# Altium schematic symbol library RF_GPS.SchLib: 20 symbols
Pins are listed as number, name and electrical type; pins without a type are passive.

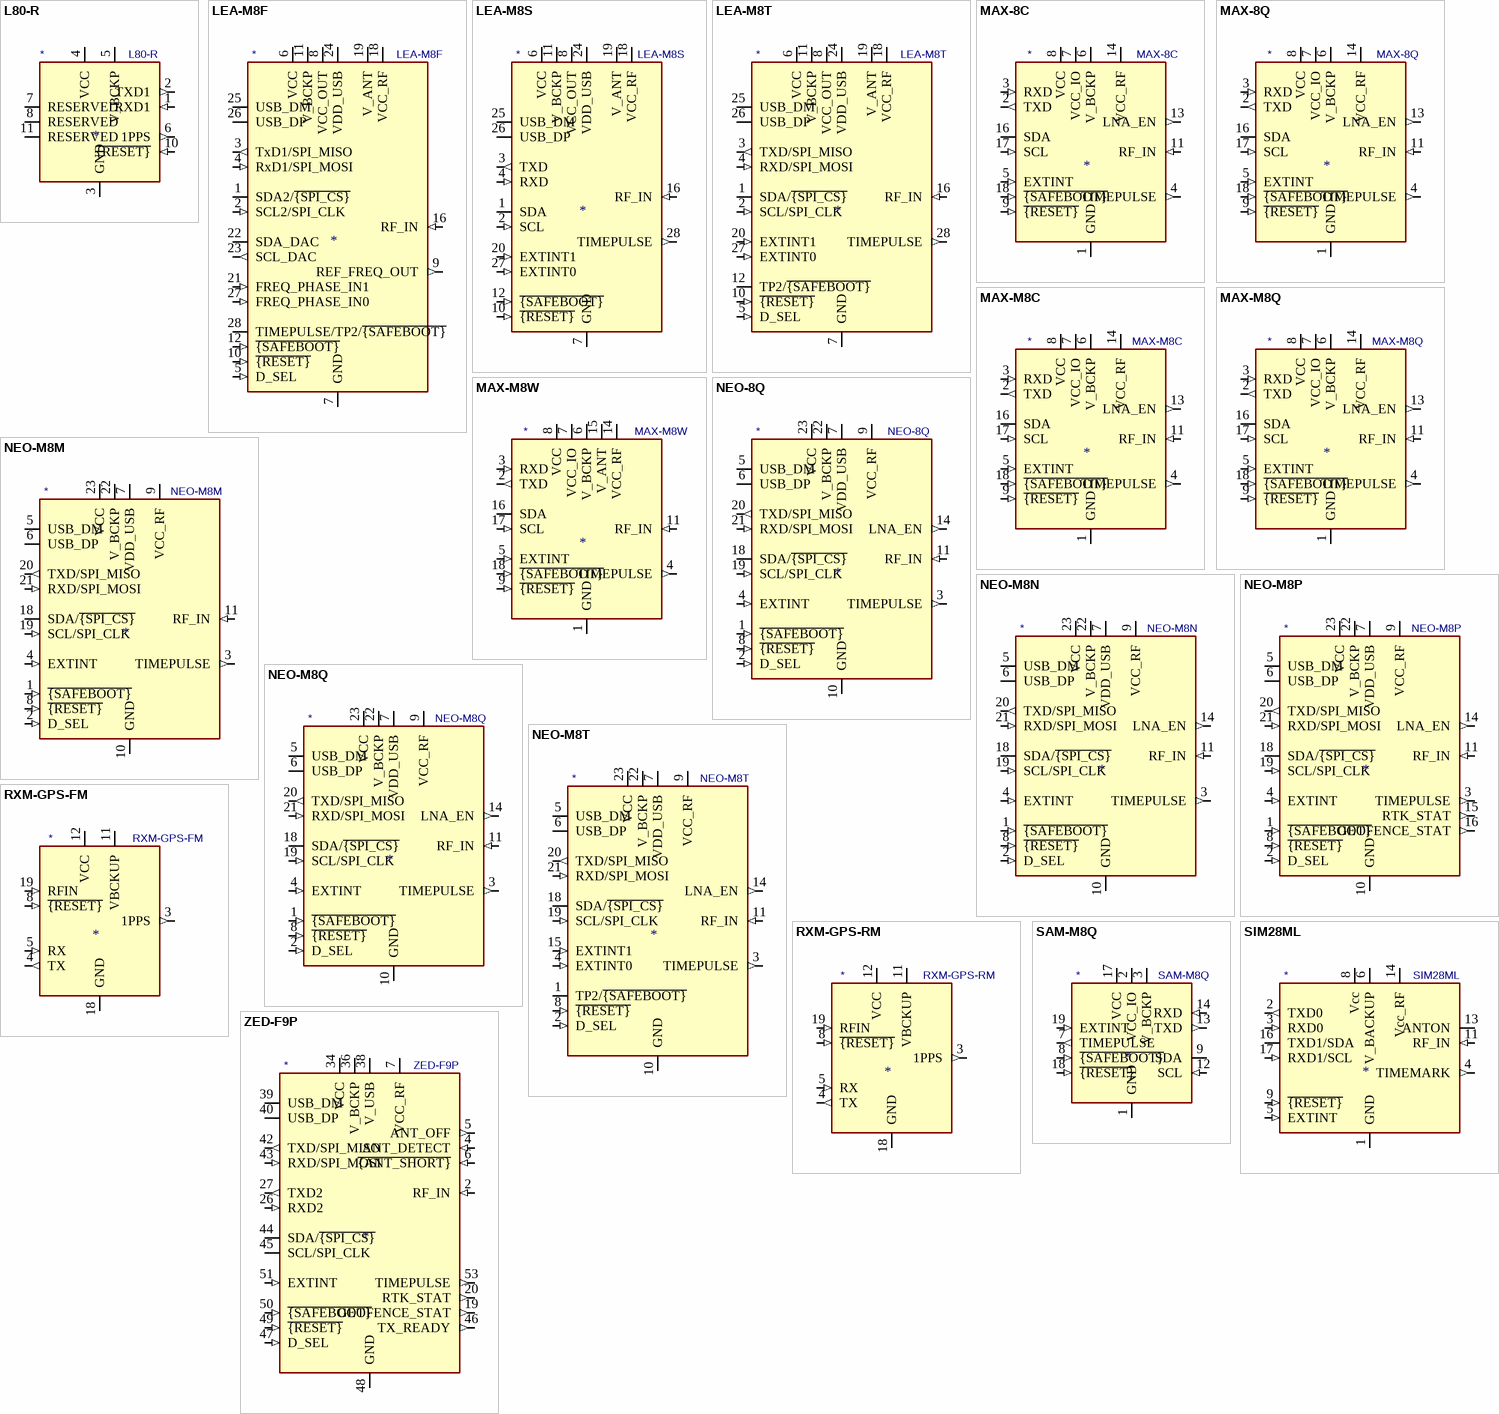
[diagram p0: symbols L80-R to ZED-F9P]

## L80-R
designator *  value L80-R
ki_keywords: quectel GPS GNSS module; ki_description: Quectel GPS Module; ki_fp_filters: Quectel*L80*R*; Footprint: RF_GPS:Quectel_L80-R; Supplier: https://www.quectel.com/UploadImage/Downlad/Quectel_L80-R_Hardware_Design_V1.2.pdf
footprint Quectel_L80-R
pins: 1 RXD1 (in), 2 TXD1 (out), 3 GND (power), 4 VCC (power), 5 V_BCKP (power), 6 1PPS (out), 7 RESERVED, 8 RESERVED, 9 NC (in) hidden, 10 ~{{RESET}} (in), 11 RESERVED, 12 GND hidden

## LEA-M8F
designator *  value LEA-M8F
ki_keywords: ublox GPS GNSS module; ki_description: GNSS Module LEA M8, VCC 3V to 3.6V; ki_fp_filters: ublox*LEA*; Footprint: RF_GPS:ublox_LEA; Supplier: https://www.u-blox.com/sites/default/files/products/documents/LEA-M8F_DataSheet_%28UBX-14001772%29.pdf
footprint ublox_LEA
pins: 1 SDA2/~{{SPI_CS}} (io), 2 SCL2/SPI_CLK (in), 3 TxD1/SPI_MISO (out), 4 RxD1/SPI_MOSI (in), 5 D_SEL (in), 6 VCC (power), 7 GND (power), 8 VCC_OUT (power), 9 REF_FREQ_OUT (out), 10 ~{{RESET}} (in), 11 V_BCKP (power), 12 ~{{SAFEBOOT}} (in), 13 GND hidden, 14 GND hidden, 15 GND hidden, 16 RF_IN (in), 17 GND hidden, 18 VCC_RF (power), 19 V_ANT (power), 20 RESERVED (in) hidden, 21 FREQ_PHASE_IN1 (in), 22 SDA_DAC (io), 23 SCL_DAC (out), 24 VDD_USB (power), 25 USB_DM (io), 26 USB_DP (io), 27 FREQ_PHASE_IN0 (in), 28 TIMEPULSE/TP2/~{{SAFEBOOT}} (io)

## LEA-M8S
designator *  value LEA-M8S
ki_keywords: ublox GPS GNSS module; ki_description: GNSS Module LEA M8, VCC 2.7V to 3.6V; ki_fp_filters: ublox*LEA*; Footprint: RF_GPS:ublox_LEA; Supplier: https://www.u-blox.com/sites/default/files/LEA-M8S-FW3_DataSheet_%28UBX-16010205%29.pdf
footprint ublox_LEA
pins: 1 SDA (io), 2 SCL (in), 3 TXD (out), 4 RXD (in), 5 RESERVED (in) hidden, 6 VCC (power), 7 GND (power), 8 VCC_OUT (power), 9 RESERVED (in) hidden, 10 ~{{RESET}} (in), 11 V_BCKP (power), 12 ~{{SAFEBOOT}} (in), 13 GND hidden, 14 GND hidden, 15 GND hidden, 16 RF_IN (in), 17 GND hidden, 18 VCC_RF (power), 19 V_ANT (power), 20 EXTINT1 (in), 21 RESERVED (in) hidden, 22 RESERVED (in) hidden, 23 RESERVED (in) hidden, 24 VDD_USB (power), 25 USB_DM (io), 26 USB_DP (io), 27 EXTINT0 (in), 28 TIMEPULSE (out)

## LEA-M8T
designator *  value LEA-M8T
ki_keywords: ublox GPS GNSS module; ki_description: GNSS Module LEA M8, VCC 2.7V to 3.6V; ki_fp_filters: ublox*LEA*; Footprint: RF_GPS:ublox_LEA; Supplier: https://www.u-blox.com/sites/default/files/NEO-LEA-M8T-FW3_DataSheet_%28UBX-15025193%29.pdf
footprint ublox_LEA
pins: 1 SDA/~{{SPI_CS}} (io), 2 SCL/SPI_CLK (in), 3 TXD/SPI_MISO (out), 4 RXD/SPI_MOSI (in), 5 D_SEL (in), 6 VCC (power), 7 GND (power), 8 VCC_OUT (power), 9 RESERVED (in) hidden, 10 ~{{RESET}} (in), 11 V_BCKP (power), 12 TP2/~{{SAFEBOOT}} (io), 13 GND hidden, 14 GND hidden, 15 GND hidden, 16 RF_IN (in), 17 GND hidden, 18 VCC_RF (power), 19 V_ANT (power), 20 EXTINT1 (in), 21 RESERVED (in) hidden, 22 RESERVED (in) hidden, 23 RESERVED (in) hidden, 24 VDD_USB (power), 25 USB_DM (io), 26 USB_DP (io), 27 EXTINT0 (in), 28 TIMEPULSE (out)

## MAX-8C
designator *  value MAX-8C
ki_keywords: ublox GPS GNSS module; ki_description: GNSS Module MAX M8, VCC 1.65V to 3.6V; ki_fp_filters: ublox*MAX*; Footprint: RF_GPS:ublox_MAX; Supplier: https://www.u-blox.com/sites/default/files/MAX-8_DataSheet_%28UBX-16000093%29.pdf
footprint ublox_MAX
pins: 1 GND (power), 2 TXD (out), 3 RXD (in), 4 TIMEPULSE (out), 5 EXTINT (in), 6 V_BCKP (power), 7 VCC_IO (power), 8 VCC (power), 9 ~{{RESET}} (in), 10 GND hidden, 11 RF_IN (in), 12 GND hidden, 13 LNA_EN (out), 14 VCC_RF (power), 15 Reserved (in) hidden, 16 SDA (io), 17 SCL (in), 18 ~{{SAFEBOOT}} (in)

## MAX-8Q
designator *  value MAX-8Q
ki_keywords: ublox GPS GNSS module; ki_description: GNSS Module M8, VCC 2.7V to 3.6V; ki_fp_filters: ublox*MAX*; Footprint: RF_GPS:ublox_MAX; Supplier: https://www.u-blox.com/sites/default/files/MAX-8_DataSheet_%28UBX-16000093%29.pdf
footprint ublox_MAX
pins: 1 GND (power), 2 TXD (out), 3 RXD (in), 4 TIMEPULSE (out), 5 EXTINT (in), 6 V_BCKP (power), 7 VCC_IO (power), 8 VCC (power), 9 ~{{RESET}} (in), 10 GND hidden, 11 RF_IN (in), 12 GND hidden, 13 LNA_EN (out), 14 VCC_RF (power), 15 Reserved (in) hidden, 16 SDA (io), 17 SCL (in), 18 ~{{SAFEBOOT}} (in)

## MAX-M8C
designator *  value MAX-M8C
ki_keywords: ublox GPS GNSS module; ki_description: GNSS Module MAX M8, VCC 1.65V to 3.6V; ki_fp_filters: ublox*MAX*; Footprint: RF_GPS:ublox_MAX; Supplier: https://www.u-blox.com/sites/default/files/MAX-M8-FW3_DataSheet_%28UBX-15031506%29.pdf
footprint ublox_MAX
pins: 1 GND (power), 2 TXD (out), 3 RXD (in), 4 TIMEPULSE (out), 5 EXTINT (in), 6 V_BCKP (power), 7 VCC_IO (power), 8 VCC (power), 9 ~{{RESET}} (in), 10 GND hidden, 11 RF_IN (in), 12 GND hidden, 13 LNA_EN (out), 14 VCC_RF (power), 15 Reserved (in) hidden, 16 SDA (io), 17 SCL (in), 18 ~{{SAFEBOOT}} (in)

## MAX-M8Q
designator *  value MAX-M8Q
ki_keywords: ublox GPS GNSS module; ki_description: GNSS Module MAX M8, VCC 2.7V to 3.6V; ki_fp_filters: ublox*MAX*; Footprint: RF_GPS:ublox_MAX; Supplier: https://www.u-blox.com/sites/default/files/MAX-M8-FW3_DataSheet_%28UBX-15031506%29.pdf
footprint ublox_MAX
pins: 1 GND (power), 2 TXD (out), 3 RXD (in), 4 TIMEPULSE (out), 5 EXTINT (in), 6 V_BCKP (power), 7 VCC_IO (power), 8 VCC (power), 9 ~{{RESET}} (in), 10 GND hidden, 11 RF_IN (in), 12 GND hidden, 13 LNA_EN (out), 14 VCC_RF (power), 15 Reserved (in) hidden, 16 SDA (io), 17 SCL (in), 18 ~{{SAFEBOOT}} (in)

## MAX-M8W
designator *  value MAX-M8W
ki_keywords: ublox GPS GNSS module; ki_description: GNSS Module MAX M8, VCC 2.7V to 3.6V; ki_fp_filters: ublox*MAX*; Footprint: RF_GPS:ublox_MAX; Supplier: https://www.u-blox.com/sites/default/files/MAX-M8-FW3_DataSheet_%28UBX-15031506%29.pdf
footprint ublox_MAX
pins: 1 GND (power), 2 TXD (out), 3 RXD (in), 4 TIMEPULSE (out), 5 EXTINT (in), 6 V_BCKP (power), 7 VCC_IO (power), 8 VCC (power), 9 ~{{RESET}} (in), 10 GND hidden, 11 RF_IN (in), 12 GND hidden, 13 Reserved (in) hidden, 14 VCC_RF (power), 15 V_ANT (power), 16 SDA (io), 17 SCL (in), 18 ~{{SAFEBOOT}} (in)

## NEO-8Q
designator *  value NEO-8Q
ki_keywords: ublox GPS GNSS module; ki_description: GNSS Module NEO 8, VCC 1.65V to 3.6V; ki_fp_filters: ublox*NEO*; Footprint: RF_GPS:ublox_NEO; Supplier: https://www.u-blox.com/sites/default/files/NEO-8Q_DataSheet_%28UBX-15031913%29.pdf
footprint ublox_NEO
pins: 1 ~{{SAFEBOOT}} (in), 2 D_SEL (in), 3 TIMEPULSE (out), 4 EXTINT (in), 5 USB_DM (io), 6 USB_DP (io), 7 VDD_USB (power), 8 ~{{RESET}} (in), 9 VCC_RF (power), 10 GND (power), 11 RF_IN (in), 12 GND hidden, 13 GND hidden, 14 LNA_EN (out), 15 RESERVED (in) hidden, 16 RESERVED (in) hidden, 17 RESERVED (in) hidden, 18 SDA/~{{SPI_CS}} (io), 19 SCL/SPI_CLK (in), 20 TXD/SPI_MISO (out), 21 RXD/SPI_MOSI (in), 22 V_BCKP (power), 23 VCC (power), 24 GND hidden

## NEO-M8M
designator *  value NEO-M8M
ki_keywords: ublox GPS GNSS module; ki_description: GNSS Module NEO M8, VCC 2.7V to 3.6V; ki_fp_filters: ublox*NEO*; Footprint: RF_GPS:ublox_NEO; Supplier: https://www.u-blox.com/sites/default/files/NEO-M8-FW3_DataSheet_%28UBX-15031086%29.pdf
footprint ublox_NEO
pins: 1 ~{{SAFEBOOT}} (in), 2 D_SEL (in), 3 TIMEPULSE (out), 4 EXTINT (in), 5 USB_DM (io), 6 USB_DP (io), 7 VDD_USB (power), 8 ~{{RESET}} (in), 9 VCC_RF (power), 10 GND (power), 11 RF_IN (in), 12 GND hidden, 13 GND hidden, 14 RESERVED (in) hidden, 15 RESERVED (in) hidden, 16 RESERVED (in) hidden, 17 RESERVED (in) hidden, 18 SDA/~{{SPI_CS}} (io), 19 SCL/SPI_CLK (in), 20 TXD/SPI_MISO (out), 21 RXD/SPI_MOSI (in), 22 V_BCKP (power), 23 VCC (power), 24 GND hidden

## NEO-M8N
designator *  value NEO-M8N
ki_keywords: ublox GPS GNSS module; ki_description: GNSS Module NEO M8, VCC 2.7V to 3.6V; ki_fp_filters: ublox*NEO*; Footprint: RF_GPS:ublox_NEO; Supplier: https://www.u-blox.com/sites/default/files/NEO-M8-FW3_DataSheet_%28UBX-15031086%29.pdf
footprint ublox_NEO
pins: 1 ~{{SAFEBOOT}} (in), 2 D_SEL (in), 3 TIMEPULSE (out), 4 EXTINT (in), 5 USB_DM (io), 6 USB_DP (io), 7 VDD_USB (power), 8 ~{{RESET}} (in), 9 VCC_RF (power), 10 GND (power), 11 RF_IN (in), 12 GND hidden, 13 GND hidden, 14 LNA_EN (out), 15 RESERVED (in) hidden, 16 RESERVED (in) hidden, 17 RESERVED (in) hidden, 18 SDA/~{{SPI_CS}} (io), 19 SCL/SPI_CLK (in), 20 TXD/SPI_MISO (out), 21 RXD/SPI_MOSI (in), 22 V_BCKP (power), 23 VCC (power), 24 GND hidden

## NEO-M8P
designator *  value NEO-M8P
ki_keywords: ublox GPS GNSS RTK module; ki_description: GNSS RTK Module NEO M8, VCC 2.7V to 3.6V; ki_fp_filters: ublox*NEO*; Footprint: RF_GPS:ublox_NEO; Supplier: https://www.u-blox.com/sites/default/files/NEO-M8P_DataSheet_%28UBX-15016656%29.pdf
footprint ublox_NEO
pins: 1 ~{{SAFEBOOT}} (in), 2 D_SEL (in), 3 TIMEPULSE (out), 4 EXTINT (in), 5 USB_DM (io), 6 USB_DP (io), 7 VDD_USB (power), 8 ~{{RESET}} (in), 9 VCC_RF (power), 10 GND (power), 11 RF_IN (in), 12 GND hidden, 13 GND hidden, 14 LNA_EN (out), 15 RTK_STAT (out), 16 GEOFENCE_STAT (out), 17 RESERVED (in) hidden, 18 SDA/~{{SPI_CS}} (io), 19 SCL/SPI_CLK (in), 20 TXD/SPI_MISO (out), 21 RXD/SPI_MOSI (in), 22 V_BCKP (power), 23 VCC (power), 24 GND hidden

## NEO-M8Q
designator *  value NEO-M8Q
ki_keywords: ublox GPS GNSS module; ki_description: GNSS Module NEO M8, VCC 2.7V to 3.6V; ki_fp_filters: ublox*NEO*; Footprint: RF_GPS:ublox_NEO; Supplier: https://www.u-blox.com/sites/default/files/NEO-M8-FW3_DataSheet_%28UBX-15031086%29.pdf
footprint ublox_NEO
pins: 1 ~{{SAFEBOOT}} (in), 2 D_SEL (in), 3 TIMEPULSE (out), 4 EXTINT (in), 5 USB_DM (io), 6 USB_DP (io), 7 VDD_USB (power), 8 ~{{RESET}} (in), 9 VCC_RF (power), 10 GND (power), 11 RF_IN (in), 12 GND hidden, 13 GND hidden, 14 LNA_EN (out), 15 RESERVED (in) hidden, 16 RESERVED (in) hidden, 17 RESERVED (in) hidden, 18 SDA/~{{SPI_CS}} (io), 19 SCL/SPI_CLK (in), 20 TXD/SPI_MISO (out), 21 RXD/SPI_MOSI (in), 22 V_BCKP (power), 23 VCC (power), 24 GND hidden

## NEO-M8T
designator *  value NEO-M8T
ki_keywords: ublox GPS GNSS module; ki_description: GNSS Module NEO M8, VCC 2.7V to 3.6V; ki_fp_filters: ublox*NEO*; Footprint: RF_GPS:ublox_NEO; Supplier: https://www.u-blox.com/sites/default/files/NEO-LEA-M8T-FW3_DataSheet_%28UBX-15025193%29.pdf
footprint ublox_NEO
pins: 1 TP2/~{{SAFEBOOT}} (io), 2 D_SEL (in), 3 TIMEPULSE (out), 4 EXTINT0 (in), 5 USB_DM (io), 6 USB_DP (io), 7 VDD_USB (power), 8 ~{{RESET}} (in), 9 VCC_RF (power), 10 GND (power), 11 RF_IN (in), 12 GND hidden, 13 GND hidden, 14 LNA_EN (out), 15 EXTINT1 (in), 16 RESERVED (in) hidden, 17 RESERVED (in) hidden, 18 SDA/~{{SPI_CS}} (io), 19 SCL/SPI_CLK (in), 20 TXD/SPI_MISO (out), 21 RXD/SPI_MOSI (in), 22 V_BCKP (power), 23 VCC (power), 24 GND hidden

## RXM-GPS-FM
designator *  value RXM-GPS-FM
ki_keywords: gps low-power; ki_description: Module GPS Low Power, 14mA tracking, 22 channels; ki_fp_filters: Linx*RXM?GPS*; Footprint: RF_GPS:Linx_RXM-GPS; Supplier: https://linxtechnologies.com/wp/wp-content/uploads/rxm-gps-fm.pdf
footprint Linx_RXM-GPS
pins: 1 NC (in) hidden, 2 NC (in) hidden, 3 1PPS (out), 4 TX (out), 5 RX (in), 6 NC (in) hidden, 7 NC (in) hidden, 8 ~{{RESET}} (in), 9 NC (in) hidden, 10 NC (in) hidden, 11 VBCKUP (power), 12 VCC (power), 13 NC (in) hidden, 14 NC (in) hidden, 15 NC (in) hidden, 16 NC (in) hidden, 18 GND (power), 19 RFIN (in), 20 GND hidden, 21 GND hidden, 22 GND hidden

## RXM-GPS-RM
designator *  value RXM-GPS-RM
ki_keywords: gps low-power; ki_description: Module GPS Low Power, 14mA tracking, 22 channels; ki_fp_filters: Linx*RXM?GPS*; Footprint: RF_GPS:Linx_RXM-GPS; Supplier: https://linxtechnologies.com/wp/wp-content/uploads/rxm-gps-rm.pdf
footprint Linx_RXM-GPS
pins: 1 NC (in) hidden, 2 NC (in) hidden, 3 1PPS (out), 4 TX (out), 5 RX (in), 6 NC (in) hidden, 7 NC (in) hidden, 8 ~{{RESET}} (in), 9 NC (in) hidden, 10 NC (in) hidden, 11 VBCKUP (power), 12 VCC (power), 13 NC (in) hidden, 14 NC (in) hidden, 15 NC (in) hidden, 16 NC (in) hidden, 18 GND (power), 19 RFIN (in), 20 GND hidden, 21 GND hidden, 22 GND hidden

## SAM-M8Q
designator *  value SAM-M8Q
ki_keywords: gps module with antenna; ki_description: GPS ublox M8 variant; ki_fp_filters: ublox*SAM?M8Q*; Footprint: RF_GPS:ublox_SAM-M8Q; Supplier: https://www.u-blox.com/sites/default/files/SAM-M8Q_DataSheet_%28UBX-16012619%29.pdf
footprint ublox_SAM-M8Q
pins: 1 GND (power), 2 VCC_IO (power), 3 V_BCKP (power), 4 GND hidden, 5 GND hidden, 6 GND hidden, 7 TIMEPULSE (out), 8 ~{{SAFEBOOT}} (in), 9 SDA (io), 10 GND hidden, 11 GND hidden, 12 SCL (in), 13 TXD (out), 14 RXD (in), 15 GND hidden, 16 GND hidden, 17 VCC (power), 18 ~{{RESET}} (in), 19 EXTINT (in), 20 GND hidden

## SIM28ML
designator *  value SIM28ML
ki_keywords: GPS A-GPS receiver; ki_description: Standalone GPS/A-GPS receiver module, built-in LNA, -165dBm sensitivity, 2.8-4.3V, SMD; ki_fp_filters: SIM28ML*; Footprint: RF_GPS:SIM28ML; Supplier: https://simcom.ee/documents/SIM28ML/SIM28ML_Hardware%20Design_V1.01.pdf
footprint SIM28ML
pins: 1 GND (power), 2 TXD0 (out), 3 RXD0 (in), 4 TIMEMARK (out), 5 EXTINT (in), 6 V_BACKUP (power), 7 NC (in) hidden, 8 Vcc (power), 9 ~{{RESET}} (in), 10 GND hidden, 11 RF_IN (in), 12 GND hidden, 13 ANTON (power), 14 Vcc_RF (power), 15 NC (in) hidden, 16 TXD1/SDA (io), 17 RXD1/SCL (in), 18 NC (in) hidden

## ZED-F9P
designator *  value ZED-F9P
ki_keywords: u-blox GNSS multi-band RTK; ki_description: GNSS Module ZED F9, VCC 2.7V to 3.6V, LGA-54; ki_fp_filters: ublox*ZED*; Footprint: RF_GPS:ublox_ZED; Supplier: https://www.u-blox.com/sites/default/files/ZED-F9P_DataSheet_%28UBX-17051259%29.pdf
footprint ublox_ZED
pins: 1 GND hidden, 2 RF_IN (in), 3 GND hidden, 4 ANT_DETECT (in), 5 ANT_OFF (out), 6 ~{{ANT_SHORT}} (in), 7 VCC_RF (power), 8 Reserved (in) hidden, 9 Reserved (in) hidden, 10 Reserved (in) hidden, 11 Reserved (in) hidden, 12 GND hidden, 13 Reserved (in) hidden, 14 GND hidden, 15 Reserved (in) hidden, 16 Reserved (in) hidden, 17 Reserved (in) hidden, 18 Reserved (in) hidden, 19 GEOFENCE_STAT (out), 20 RTK_STAT (out), 21 Reserved (in) hidden, 22 Reserved (in) hidden, 23 Reserved (in) hidden, 24 Reserved (in) hidden, 25 Reserved (in) hidden, 26 RXD2 (in), 27 TXD2 (out), 28 Reserved (in) hidden, 29 Reserved (in) hidden, 30 Reserved (in) hidden, 31 Reserved (in) hidden, 32 GND hidden, 33 VCC hidden, 34 VCC (power), 35 Reserved (in) hidden, 36 V_BCKP (power), 37 GND hidden, 38 V_USB (power), 39 USB_DM (io), 40 USB_DP (io), 41 GND hidden, 42 TXD/SPI_MISO (out), 43 RXD/SPI_MOSI (in), 44 SDA/~{{SPI_CS}} (io), 45 SCL/SPI_CLK (io), 46 TX_READY (out), 47 D_SEL (in), 48 GND (power), 49 ~{{RESET}} (in), 50 ~{{SAFEBOOT}} (in), 51 EXTINT (in), 52 Reserved (in) hidden, 53 TIMEPULSE (out), 54 Reserved (in) hidden, 55 GND hidden